# Altium footprint library TH Diode.PcbLib: 10 footprints
Each footprint in its own frame and in the unit in brackets; x right, y up, seen from the top. Pads: shape width x height; smd on the part's side, far side on the other; paste and mask are expansions set on the pad; w line width, h text height; cw(c..) or ccw(c..) is an arc to the next point about the centre after c.
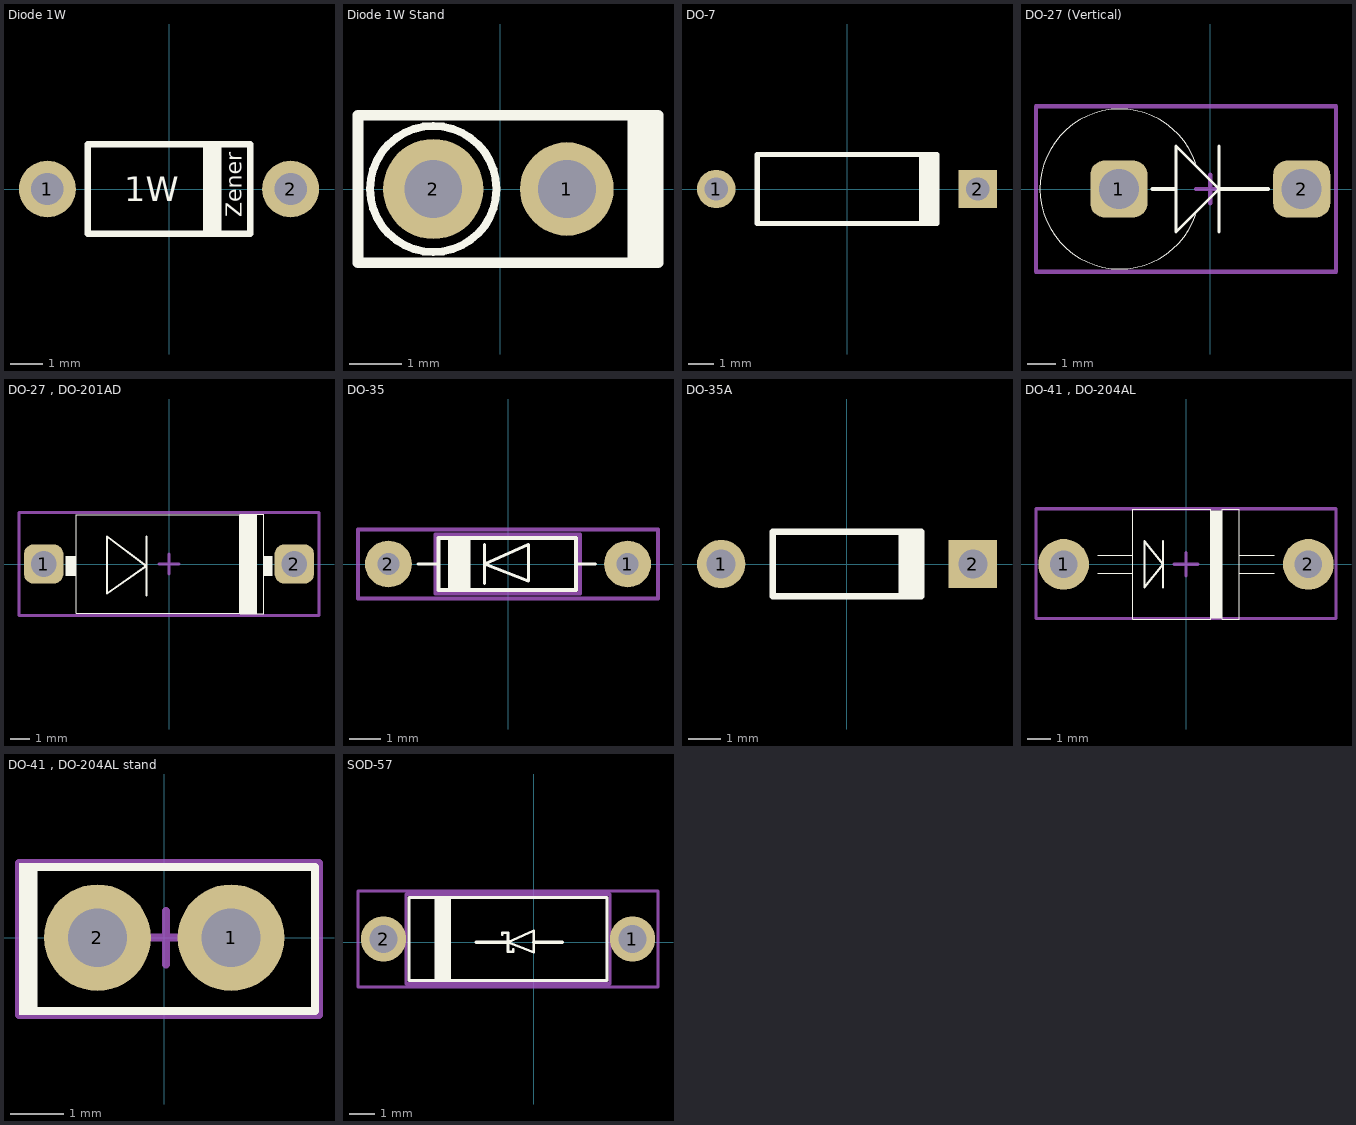
[diagram p0: the footprints below, top view; thin cyan lines are the x and y axes]

## Diode 1W [mil]
height 122.05
pads (2):
  round 70 hole 40: 1(-150,0) 2(150,0)
Top Overlay:
  rectangle: 42,-55 65,55
  lines w7.87: -100,-55 -100,55 100,55 100,-55 -100,-55
  text "1W" at -55,-15 h30
  text "Zener" at 90,-35 h19.68
3D body "Zener 1W.STEP": height 131.24, standoff -39.37, extent -166,-52.5 165,52.5

## Diode 1W Stand [mm]
pads (2):
  round 1.778 hole 1.1: 1(1.27,0)
  round 1.905 hole 1.1: 2(-1.27,0)
Top Overlay:
  circle w0.15: c-1.27,0 r1.2
  rectangle: 2.425,-1.397 3,1.397
  lines w0.2: -2.7,-1.397 -2.7,1.397 3,1.397 3,-1.397 -2.7,-1.397
3D body "Zener 1W_Stand.STEP": height 7.39, standoff -1, extent -2.616,-1.321 1.651,1.346

## DO-7 [mm] "Diode, Axial; Body 7 x 2.7 mm (LxDia. max), Lead Dia. 0.53 mm (max)"
height 2.7
pads (2):
  round 1.5 hole 0.9: 1(-5.1,0)
  rect 1.5x1.5 hole 0.9: 2(5.1,0)
Top Overlay:
  rectangle: 2.8,-1.35 3.6,1.35
  lines w0.2: 3.5,-1.35 -3.5,-1.35 -3.5,1.35 3.5,1.35

## DO-27 (Vertical) [mm] "Designer Abbas Basereh"
height 12
pads (2):
  rrect50% 2x2 hole 1.4: 1(-3.2,0) 2(3.2,0)
Top Overlay:
  lines w0.013: -3.164,-0.66 cw(c-3.164,0) -3.164,0.66 ; -3.163,-0.658 cw(c-3.166,0) -3.164,0.658 ; -0.511,-0.896 cw(c-3.164,0) -0.511,0.896 ; 3.266,-0.66 ccw(c3.266,0) 3.926,0 ccw(c3.266,0) 3.266,0.66 ; 3.266,-0.658 ccw(c3.269,0) 3.266,0.658
  lines w0.1: 0.3,-1.5 0.3,1.5 ; -1.2,-1.5 0.3,0 -1.2,1.5 -1.2,-1.5
  lines w0.127: -2.032,0 -1.27,0 ; 0.3,0 2.032,0
Mechanical 15:
  lines w0.15: -0.5,0 0.5,0 ; 0,-0.5 0,0.5 ; -6.1,-2.9 4.4,-2.9 4.4,2.9 -6.1,2.9 -6.1,-2.9
3D body "User Library-User Library-DO-201AV-Vertical_2001.STEP": height 15.69, standoff -3, extent -6.045,-2.8 3.845,2.8

## DO-27 , DO-201AD [mm] "Designer Abbas Basereh"
height 5
pads (2):
  rrect50% 2x2 hole 1.3: 1(-6.35,0) 2(6.35,0)
Top Overlay:
  rectangle: -5.25,-0.6 -4.7,0.4
  rectangle: 4.8,-0.6 5.25,0.4
  rectangle: 3.55,-2.5 4.45,2.5
  lines w0.013: 3.6,-2.5 0.469,-2.5 -4.7,-2.5 -4.7,2.5 3.6,2.5 ; 3.6,-2.511 4.8,-2.511 4.8,2.511 3.6,2.511 3.6,-2.511
  lines w0.1: -1.15,-1.6 -1.15,1.4 ; -3.15,-1.5 -1.15,-0.1 -3.15,1.4 -3.15,-1.5
Mechanical 15:
  lines w0.15: -0.5,0 0.5,0 ; 0,-0.5 0,0.5 ; -7.6,-2.6 7.6,-2.6 7.6,2.6 -7.6,2.6 -7.6,-2.6
3D body "User Library-Diode 1N5408 (pcb).STEP": height 5.51, standoff -2.85, extent -6.95,-2.511 6.95,2.511

## DO-35 [mm] "Diode"
height 1.6
pads (2):
  round 1.5 hole 0.7: 1(3.825,0) 2(-3.825,0)
Top Overlay:
  rectangle: -1.925,-0.85 -1.2,0.85
  lines w0.1: -2.875,0 -2.225,0 ; -0.75,-0.625 -0.75,0.625 ; 2.175,0 2.8,0 ; -0.75,0 0.65,0.625 0.65,-0.55 -0.75,0
  lines w0.127: -2.225,-0.825 2.175,-0.825 2.175,0.825 -2.225,0.825 -2.225,-0.825
Mechanical 13:
  lines w0.127: -2.325,-0.95 -2.325,0.95 2.3,0.95 2.3,-0.95 -2.325,-0.95
Mechanical 15:
  lines w0.127: -4.8,-1.1 4.8,-1.1 4.8,1.1 -4.8,1.1 -4.8,-1.1
3D body "User Library-DO-35-300mil.STEP": height 2.46, standoff -1.95, extent -4.1,-0.96 4.08,0.96

## DO-35A [mm] "Diode, Axial; Body 4.6 x 1.9 mm (LxDia. max), Lead Dia. 0.53 mm (max)"
height 2
pads (2):
  round 1.5 hole 0.9: 1(-3.9,0)
  rect 1.5x1.5 hole 0.9: 2(3.9,0)
Top Overlay:
  rectangle: 1.6,-1 2.4,1
  lines w0.2: 2.3,-1 -2.3,-1 -2.3,1 2.3,1

## DO-41 , DO-204AL [mm] "Designer Abbas Basereh"
height 5
pads (2):
  round 2.2 hole 1.2: 1(-5.3,0) 2(5.3,0)
Top Overlay:
  rectangle: 1.068,-2.31 1.568,2.31
  lines w0.013: -3.818,-0.393 -2.318,-0.393 ; -3.818,0.392 -2.318,0.392 ; 1.068,-2.31 1.568,-2.31 ; 1.068,2.31 1.568,2.31 ; 2.318,-0.393 3.818,-0.393 ; 2.318,0.392 3.818,0.392 ; -2.318,-2.375 -2.318,2.375 1.068,2.375 1.068,0 1.068,-2.375 -2.318,-2.375 ; 1.568,-2.375 1.568,0 1.568,2.375 2.318,2.375 2.318,-2.375 1.568,-2.375
  lines w0.1: -1,-1 -1,1 ; -1.8,-1 -1,0 -1.8,1 -1.8,-1
Mechanical 15:
  lines w0.15: -0.5,0 0.5,0 ; 0,-0.5 0,0.5 ; -6.5,-2.35 -6.5,2.4 6.5,2.4 6.5,-2.35 -6.5,-2.35
3D body "User Library-1N5819.STEP": height 5.38, standoff -1.98, extent -5.72,-2.35 5.7,2.4

## DO-41 , DO-204AL stand [mm] "Designer Abbas Basereh"
height 5
pads (2):
  round 2 hole 1.1: 1(1.253,0) 2(-1.253,0)
Top Overlay:
  rectangle: -2.725,-1.45 -2.375,1.4
  lines w0.15: -2.45,-1.375 2.828,-1.375 2.828,0.933 2.828,1.325 -2.45,1.325
Mechanical 15:
  lines w0.15: -0.47,0 0.53,0 ; 0.03,-0.5 0.03,0.5 ; -2.725,-1.45 -2.725,1.4 2.903,1.4 2.903,-1.45 -2.725,-1.45
3D body "SW3dPS-1N4007_Stand.STEP": height 6.49, standoff -1.9, extent -1.661,-1.358 2.607,1.309

## SOD-57 [mm] "Diode"
height 1.6
pads (2):
  round 1.8 / inner round 1.5 / far side round 1.5 hole 1.1: 1(3.937,0.127) 2(-5.969,0.127)
Top Overlay:
  rectangle: -3.937,-1.524 -3.282,1.778
  lines w0.1: -1.25,0.3 -1.25,0.375 -1.244,0.381 -1.016,0.381 -1.016,-0.381 -0.806,-0.381 -0.8,-0.375 -0.8,-0.275 ; 0,-0.399 -1.016,0 0,0.454 0,-0.381
  lines w0.127: -2.286,0 -1.016,0 ; 0,0 1.143,0 ; -4.953,-1.524 2.921,-1.524 2.921,1.778 -4.953,1.778 -4.953,-1.524
Mechanical 13:
  lines w0.127: -5.08,-1.651 -5.08,1.905 3.048,1.905 3.048,-1.651 -5.08,-1.651
Mechanical 15:
  lines w0.127: -6.985,-1.778 4.953,-1.778 4.953,2.032 -6.985,2.032 -6.985,-1.778
3D body "User Library-BYV28-200-1.STEP": height 4.29, standoff -2.71, extent -6.455,-1.671 4.423,1.925